# Altium footprint library pcbComponent.PCBLIB: 67 footprints (part 5 of 5)
Each footprint in its own frame and in the unit in brackets; x right, y up, seen from the top. Pads: shape width x height; smd on the part's side, far side on the other; paste and mask are expansions set on the pad; w line width, h text height; cw(c..) or ccw(c..) is an arc to the next point about the centre after c.
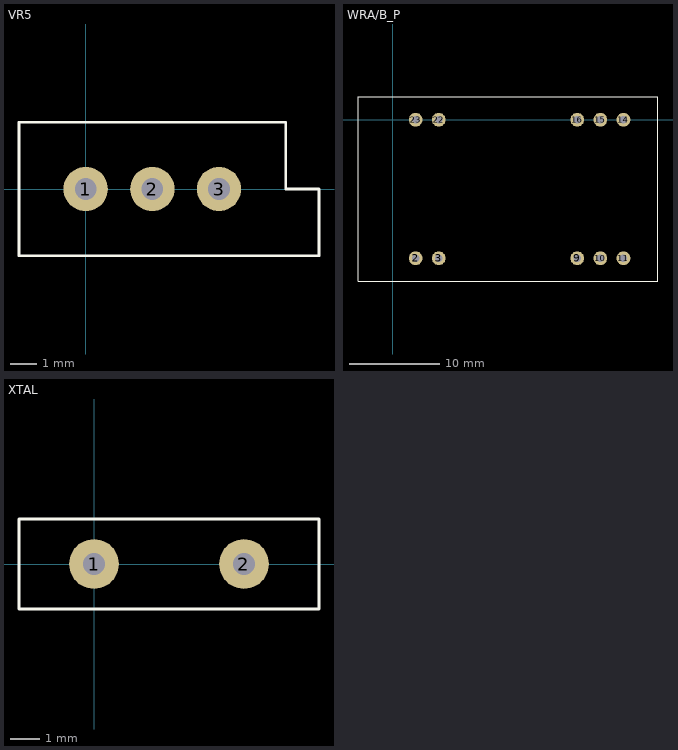
[diagram p4: the footprints below, top view; thin cyan lines are the x and y axes]

## VR5 [mm]
pads (3):
  round 1.69 hole 0.82: 1(0,0) 2(2.54,0) 3(5.08,0)
TopOverlay:
  lines w0.102: -2.54,-2.54 -2.54,2.54 7.62,2.54 7.62,0 8.89,0 8.89,-2.54 -2.54,-2.54

## WRA/B_P [mil]
pads (10):
  round 60 hole 32: 2(100,-600) 3(200,-600) 9(800,-600) 10(900,-600) 11(1000,-600) 14(1000,0) 15(900,0) 16(800,0) 22(200,0) 23(100,0)
TopOverlay:
  lines w3.94: -150,-700 -150,100 1150,100 1150,-700 126.77,-700 -150,-700

## XTAL [mm]
pads (2):
  round 1.69 hole 0.76: 1(0,0) 2(5.08,0)
TopOverlay:
  lines w0.1: -2.54,-1.524 7.62,-1.524 7.62,1.524 -2.54,1.524 -2.54,-1.524